# EAGLE library part LCMXO2-256HC-4TG100C (library PartsForProto)
ＭａｃｈＸＯ２実装基板 ＬＣＭＸＯ２－２５６ＨＣ－４ＴＧ１００Ｃ(I-11003)を ２．５４ｍｍピッチに変換する基板に実装 ランク：ＨＣ高性能版 スピード：－４ ＬＡＢ数：３２ ＬＵＴ数：２５６ Ｉ／Ｏ数：５５ 分配ＲＡＭ：２Ｋｂｉｔ ハードウェアマクロ：Ｉ２Ｃｘ２、ＳＰＩｘ１、タイマーｘ１ 電源電圧：２．３７５ｖ－３．４６５ｖ ＩＯ電圧：１．１４ｖ－３．４６５ｖ
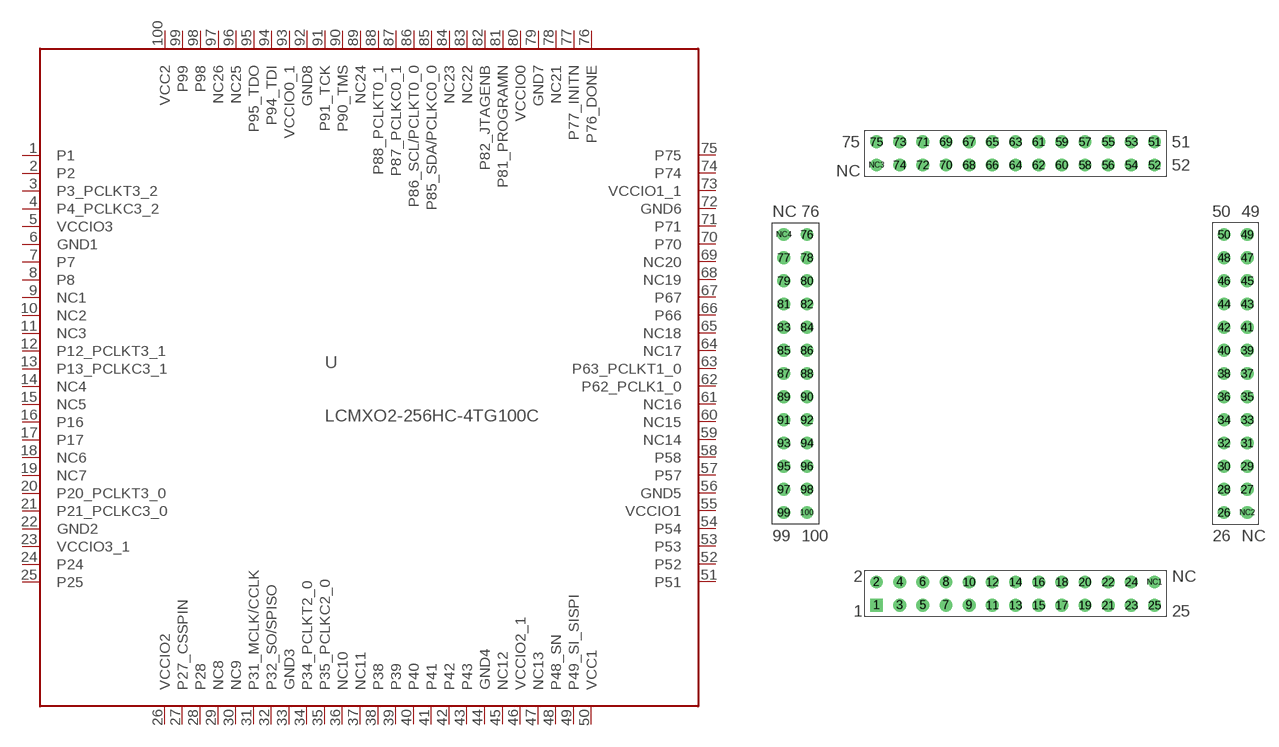
[diagram p0: symbol with the pads of QFP100-0.5MMPITCH; footprint QFP100-0.5MMPITCH]

Designator prefix U

## LCMXO2-256HC-4TG100C  [QFP100-0.5MMPITCH]
1  P1
2  P2
3  P3_PCLKT3_2
4  P4_PCLKC3_2
5  VCCIO3  pas
6  GND1  pas
7  P7
8  P8
9  NC1  nc
10  NC2  nc
11  NC3  nc
12  P12_PCLKT3_1
13  P13_PCLKC3_1
14  NC4  nc
15  NC5  nc
16  P16
17  P17
18  NC6  nc
19  NC7  nc
20  P20_PCLKT3_0
21  P21_PCLKC3_0
22  GND2  pas
23  VCCIO3_1  pas
24  P24
25  P25
26  VCCIO2  pas
27  P27_CSSPIN
28  P28
29  NC8  nc
30  NC9  nc
31  P31_MCLK/CCLK
32  P32_SO/SPISO
33  GND3  pas
34  P34_PCLKT2_0
35  P35_PCLKC2_0
36  NC10  nc
37  NC11  nc
38  P38
39  P39
40  P40
41  P41
42  P42
43  P43
44  GND4  pas
45  NC12  nc
46  VCCIO2_1  pas
47  NC13  nc
48  P48_SN
49  P49_SI_SISPI
50  VCC1  pas
51  P51
52  P52
53  P53
54  P54
55  VCCIO1  pas
56  GND5  pas
57  P57
58  P58
59  NC14  nc
60  NC15  nc
61  NC16  nc
62  P62_PCLK1_0
63  P63_PCLKT1_0
64  NC17  nc
65  NC18  nc
66  P66
67  P67
68  NC19  nc
69  NC20  nc
70  P70
71  P71
72  GND6  pas
73  VCCIO1_1  pas
74  P74
75  P75
76  P76_DONE
77  P77_INITN
78  NC21  nc
79  GND7  pas
80  VCCIO0  pas
81  P81_PROGRAMN
82  P82_JTAGENB
83  NC22  nc
84  NC23  nc
85  P85_SDA/PCLKC0_0
86  P86_SCL/PCLKT0_0
87  P87_PCLKC0_1
88  P88_PCLKT0_1
89  NC24  nc
90  P90_TMS
91  P91_TCK
92  GND8  pas
93  VCCIO0_1  pas
94  P94_TDI
95  P95_TDO
96  NC25  nc
97  NC26  nc
98  P98
99  P99
100  VCC2  pas

## Footprint QFP100-0.5MMPITCH (pad centres in mm)
QFP100-0.5mmPITCH ２．５４ミリピッチ２ｘ１３ピンの ピンヘッダまたはピンソケット用の スルーホールを四辺に正方配置
drill 0.9 square: 1 0,0
drill 0.9: 2 0,2.54; 3 2.54,0; 4 2.54,2.54; 5 5.08,0; 6 5.08,2.54; 7 7.62,0; 8 7.62,2.54; 9 10.16,0; 10 10.16,2.54; 11 12.7,0; 12 12.7,2.54; 13 15.24,0; 14 15.24,2.54; 15 17.78,0; 16 17.78,2.54; 17 20.32,0; 18 20.32,2.54; 19 22.86,0; 20 22.86,2.54; 21 25.4,0; 22 25.4,2.54; 23 27.94,0; 24 27.94,2.54; 25 30.48,0; 26 38.1,10.16; 27 40.64,12.7; 28 38.1,12.7; 29 40.64,15.24; 30 38.1,15.24; 31 40.64,17.78; 32 38.1,17.78; 33 40.64,20.32; 34 38.1,20.32; 35 40.64,22.86; 36 38.1,22.86; 37 40.64,25.4; 38 38.1,25.4; 39 40.64,27.94; 40 38.1,27.94; 41 40.64,30.48; 42 38.1,30.48; 43 40.64,33.02; 44 38.1,33.02; 45 40.64,35.56; 46 38.1,35.56; 47 40.64,38.1; 48 38.1,38.1; 49 40.64,40.64; 50 38.1,40.64; 51 30.48,50.8; 52 30.48,48.26; 53 27.94,50.8; 54 27.94,48.26; 55 25.4,50.8; 56 25.4,48.26; 57 22.86,50.8; 58 22.86,48.26; 59 20.32,50.8; 60 20.32,48.26; 61 17.78,50.8; 62 17.78,48.26; 63 15.24,50.8; 64 15.24,48.26; 65 12.7,50.8; 66 12.7,48.26; 67 10.16,50.8; 68 10.16,48.26; 69 7.62,50.8; 70 7.62,48.26; 71 5.08,50.8; 72 5.08,48.26; 73 2.54,50.8; 74 2.54,48.26; 75 0,50.8; 76 -7.62,40.64; 77 -10.16,38.1; 78 -7.62,38.1; 79 -10.16,35.56; 80 -7.62,35.56; 81 -10.16,33.02; 82 -7.62,33.02; 83 -10.16,30.48; 84 -7.62,30.48; 85 -10.16,27.94; 86 -7.62,27.94; 87 -10.16,25.4; 88 -7.62,25.4; 89 -10.16,22.86; 90 -7.62,22.86; 91 -10.16,20.32; 92 -7.62,20.32; 93 -10.16,17.78; 94 -7.62,17.78; 95 -10.16,15.24; 96 -7.62,15.24; 97 -10.16,12.7; 98 -7.62,12.7; 99 -10.16,10.16; 100 -7.62,10.16; NC1 30.48,2.54; NC2 40.64,10.16; NC3 0,48.26; NC4 -10.16,40.64